# EAGLE library part FPC-0.8-37 (library densikit)
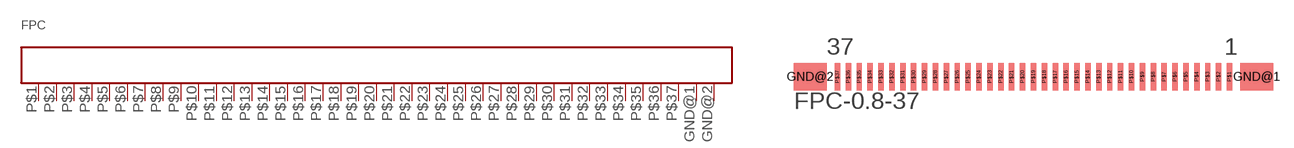
[diagram p5: symbol with the pads of FPC-0.8-37; footprint FPC-0.8-37]

Designator prefix FPC

## FPC-0.8-37  [FPC-0.8-37]
GND@1  GND  pwr
GND@2  GND  pwr
P$1  P$1
P$2  P$2
P$3  P$3
P$4  P$4
P$5  P$5
P$6  P$6
P$7  P$7
P$8  P$8
P$9  P$9
P$10  P$10
P$11  P$11
P$12  P$12
P$13  P$13
P$14  P$14
P$15  P$15
P$16  P$16
P$17  P$17
P$18  P$18
P$19  P$19
P$20  P$20
P$21  P$21
P$22  P$22
P$23  P$23
P$24  P$24
P$25  P$25
P$26  P$26
P$27  P$27
P$28  P$28
P$29  P$29
P$30  P$30
P$31  P$31
P$32  P$32
P$33  P$33
P$34  P$34
P$35  P$35
P$36  P$36
P$37  P$37

## Footprint FPC-0.8-37 (pad centres in mm)
smd 2.4 x 2: GND@1 15.6,0; GND@2 -17.2,0
smd 0.4 x 2: P$1 13.6,0; P$2 12.8,0; P$3 12,0; P$4 11.2,0; P$5 10.4,0; P$6 9.6,0; P$7 8.8,0; P$8 8,0; P$9 7.2,0; P$10 6.4,0; P$11 5.6,0; P$12 4.8,0; P$13 4,0; P$14 3.2,0; P$15 2.4,0; P$16 1.6,0; P$17 0.8,0; P$18 0,0; P$19 -0.8,0; P$20 -1.6,0; P$21 -2.4,0; P$22 -3.2,0; P$23 -4,0; P$24 -4.8,0; P$25 -5.6,0; P$26 -6.4,0; P$27 -7.2,0; P$28 -8,0; P$29 -8.8,0; P$30 -9.6,0; P$31 -10.4,0; P$32 -11.2,0; P$33 -12,0; P$34 -12.8,0; P$35 -13.6,0; P$36 -14.4,0; P$37 -15.2,0